# Altium footprint library CON-SIP.PcbLib: 3 footprints
Each footprint in its own frame and in the unit in brackets; x right, y up, seen from the top. Pads: shape width x height; smd on the part's side, far side on the other; paste and mask are expansions set on the pad; w line width, h text height; cw(c..) or ccw(c..) is an arc to the next point about the centre after c.
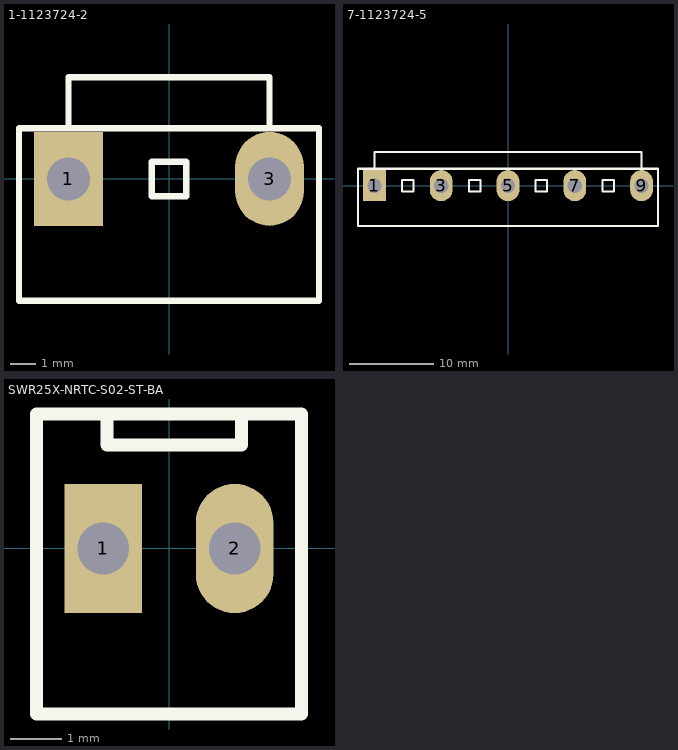
[diagram p0: the footprints below, top view; thin cyan lines are the x and y axes]

## 1-1123724-2 [mm]
pads (2):
  rect 2.7x3.7 hole 1.7: 1(-3.96,0)
  oval 2.7x3.7 hole 1.7: 3(3.96,0)
Top Overlay:
  region: 0,0
  lines w0.254: -3.96,2 -3.96,4 3.96,4 ; 3.96,2 3.96,3.96 ; -5.91,-4.8 5.91,-4.8 5.91,-3.96 5.91,0 5.91,2 -5.91,2 -5.91,0 -5.91,-4.8 ; -0.68,-0.68 -0.68,0 -0.68,0.68 0,0.68 0.68,0.68 0.68,0 0.68,-0.68 0,-0.68 -0.68,-0.68
3D body "c-1-1123724-2-ad-3d.stp": height 10.71, standoff -3.69, extent -5.91,-4.8 5.91,3.7

## 7-1123724-5 [mm] "3.96EP HDR ASSY 5(9)P NATURAL"
pads (5):
  rect 2.7x3.7 hole 1.7: 1(-15.84,0)
  oval 2.7x3.7 hole 1.7: 3(-7.92,0) 5(0,0) 7(7.92,0) 9(15.84,0)
Top Overlay:
  region: 11.88,0
  region: 3.96,0
  region: -3.96,0
  region: -11.88,0
  lines w0.254: -17.79,-4.8 17.79,-4.8 17.79,0 17.79,2 -17.79,2 -17.79,0 -17.79,-4.8 ; -15.84,2 15.84,2 15.84,4 -15.84,4 -15.84,2 ; -12.56,-0.68 -11.88,-0.68 -11.2,-0.68 -11.2,0 -11.2,0.68 -11.88,0.68 -12.56,0.68 -12.56,0 -12.56,-0.68 ; -4.64,-0.68 -4.64,0 -4.64,0.68 -3.96,0.68 -3.28,0.68 -3.28,0 -3.28,-0.68 -3.96,-0.68 -4.64,-0.68 ; 3.28,-0.68 3.28,0 3.28,0.68 3.96,0.68 4.64,0.68 4.64,0 4.64,-0.68 3.96,-0.68 3.28,-0.68 ; 11.2,-0.68 11.2,0 11.2,0.68 11.88,0.68 12.56,0.68 12.56,0 12.56,-0.68 11.88,-0.68 11.2,-0.68
3D body "c-7-1123724-5-ad-3d.stp": height 10.71, standoff -3.69, extent -17.775,-4.775 17.805,3.725

## SWR25X-NRTC-S02-ST-BA [mm]
pads (2):
  rect 1.5x2.5 hole 1: 1(-1.27,0)
  oval 1.5x2.5 hole 1: 2(1.27,0)
Top Overlay:
  lines w0.254: -1.2,2.6 -1.2,2 1.4,2 1.4,2.6 ; -2.56,-3.2 -2.56,2.6 0,2.6 2.56,2.6 2.56,-3.2 0,-3.2 ; -2.56,-3.2 0,-3.2 ; -2.56,-3.2 0,-3.2
3D body "SWR25X-NRTC-S02-ST-BA.STEP": height 11.41, standoff -3.39, extent -2.56,-3.225 2.56,2.575